# Altium schematic symbol library libs.SchLib: 7 symbols
Pins are listed as number, name and electrical type; pins without a type are passive.

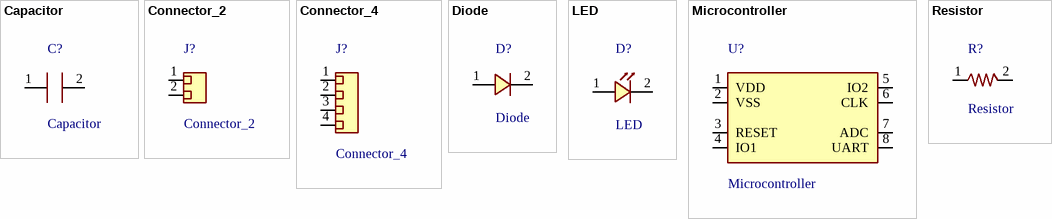
[diagram p0: symbols Capacitor to Resistor]

## Capacitor
designator C?
Generic non-polarized capacitor
pins: 1 A, 2 B

## Connector_2
designator J?
Generic two-circuit connector
pins: 1 Passive, 2 Passive

## Connector_4
designator J?
Generic four-circuit connector
pins: 1 Passive, 2 Passive, 3 Passive, 4 Passive

## Diode
designator D?
Generic two-terminal rectifier diode
pins: 1 A, 2 K

## LED
designator D?
Generic light-emitting diode
pins: 1 A, 2 K

## Microcontroller
designator U?
Conceptual controller block; not a device pinout
pins: 1 VDD, 2 VSS, 3 RESET, 4 IO1, 5 IO2, 6 CLK, 7 ADC, 8 UART

## Resistor
designator R?
Generic two-terminal resistor
pins: 1 A, 2 B